# Altium footprint library 20PIN.PcbLib: 1 footprints
Each footprint in its own frame and in the unit in brackets; x right, y up, seen from the top. Pads: shape width x height; smd on the part's side, far side on the other; paste and mask are expansions set on the pad; w line width, h text height; cw(c..) or ccw(c..) is an arc to the next point about the centre after c.
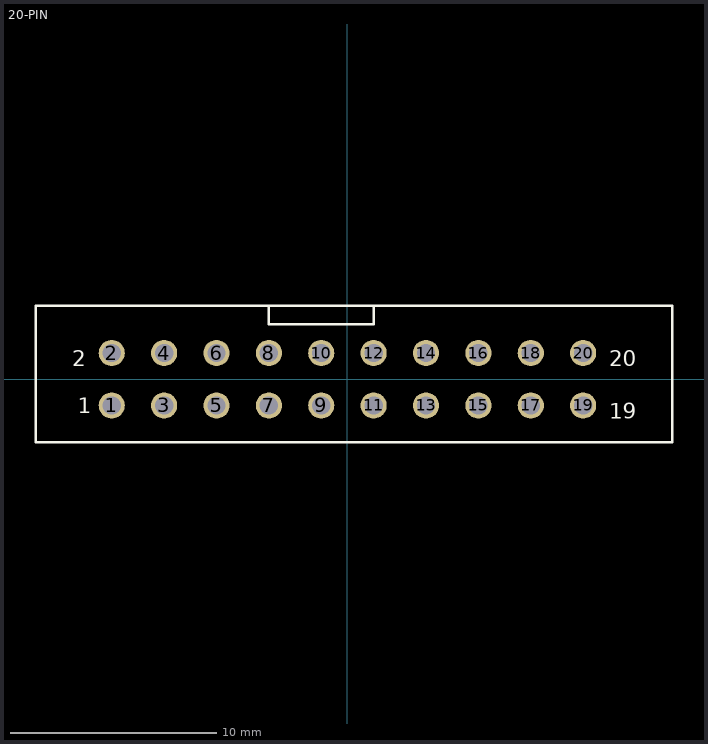
[diagram p0: the footprint, top view; thin cyan lines are the x and y axes]

## 20-PIN [mil] "连接器"
pads (20):
  round 50 hole 35: 1(-450,-50) 2(-450,50) 3(-350,-50) 4(-350,50) 5(-250,-50) 6(-250,50) 7(-150,-50) 8(-150,50) 9(-50,-50) 10(-50,50) 11(50,-50) 12(50,50) 13(150,-50) 14(150,50) 15(250,-50) 16(250,50) 17(350,-50) 18(350,50) 19(450,-50) 20(450,50)
Top Overlay:
  lines w5: -150,140 -150,105 50,105 50,140 ; -595,-120 -175,-120 175,-120 620,-120 620,140 -595,140 -595,-120
  text "20" at 500,25 h30
  text "19" at 500,-75 h30
  text "2" at -525,25 h30
  text "1" at -515,-65 h30